# Altium schematic symbol library Pathfinder_lib.SchLib: 7 symbols
Pins are listed as number, name and electrical type; pins without a type are passive.

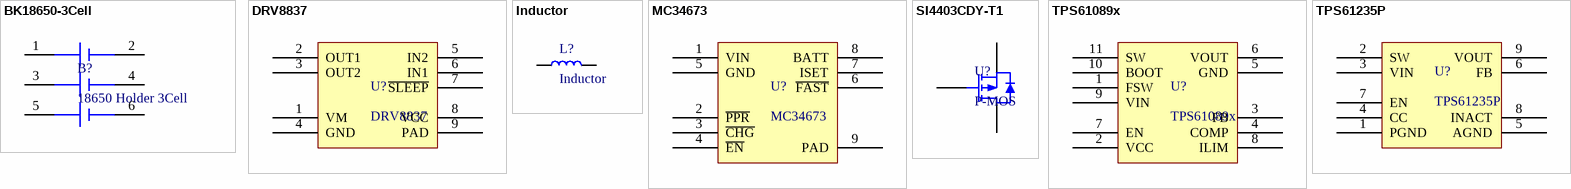
[diagram p0: symbols BK18650-3Cell to TPS61235P]

## BK18650-3Cell
designator B?, comment 18650 Holder 3Cell
BK-18650-PC6
footprint 18650-3Cell (BK-18650-PC6)
pins: 1, 2, 3, 4, 5, 6

## DRV8837
designator U?
Low-Voltage H-Bridge Driver
footprint WSON-8 (SON, 8-Leads, Body 2.00x2.00mm, Pitch 0.50mm, Thermal Pad 1.60x0.69mm, IPC Medium Density)
pins: 1 VM, 2 OUT1, 3 OUT2, 4 GND, 5 IN2, 6 IN1, 7 ~{SLEEP}, 8 VCC, 9 PAD

## Inductor
designator L?
Generic Inductor
footprint XAL7030-102ME (Precision Wire Wound Inductor, 2-Leads, Body 7.50x7.50mm, IPC Medium Density)
footprint CDMC8D28NP-1R8MC (CDMC8D28NP-1R8MC inductor)
pins: 1, 2

## MC34673
designator U?
1.2A Charger  for Single-cell Li-Ion Batteries
footprint UDFN-8 2 x 3 x 0.65 (SON, 8-Leads, Body 2.00x3.00mm, Pitch 0.50mm, Thermal Pad 1.33x0.93mm, IPC Medium Density)
pins: 1 VIN, 2 ~{PPR}, 3 ~{CHG}, 4 ~{EN}, 5 GND, 6 ~{FAST}, 7 ISET, 8 BATT, 9 PAD

## SI4403CDY-T1
designator U?, comment P-MOS
SI4403CDY-T1
footprint SOIC-8-MOSFET (SOIC, 8-Leads, Body 4.90x3.90mm, Pitch 1.27mm, IPC Medium Density); pin to pad 1>S 2>G 3>D
pins: 1 S, 2 G, 3 D

## TPS61089x
designator U?
12.6-V, 7-A Fully-Integrated Synchronous Boost Converter
footprint VQFN-11 2 x 2.5 (tps61089x)
pins: 1 FSW, 2 VCC, 3 FB, 4 COMP, 5 GND, 6 VOUT, 7 EN, 8 ILIM, 9 VIN, 10 BOOT, 11 SW

## TPS61235P
designator U?
8-A Valley Current Synchronous Boost Converter
footprint VQFN-HR-TPS61235PRWLR
pins: 1 PGND, 2 SW, 3 VIN, 4 CC, 5 AGND, 6 FB, 7 EN, 8 INACT, 9 VOUT